# EAGLE library part AM2130 (library common)
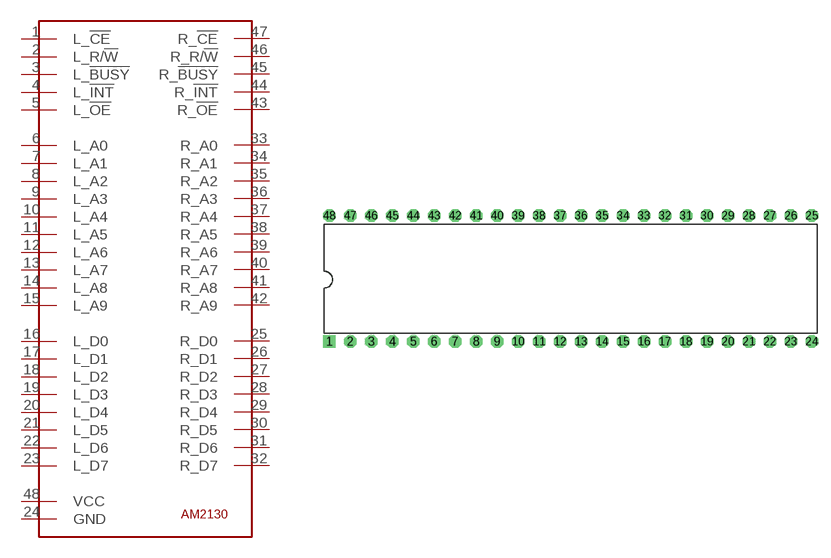
[diagram p46: symbol with the pads of DIL48; footprint DIL48]

Designator prefix -

## AM2130  [DIL48]
1  L_!CE
2  L_R/!W
3  L_!BUSY
4  L_!INT
5  L_!OE
6  L_A0
7  L_A1
8  L_A2
9  L_A3
10  L_A4
11  L_A5
12  L_A6
13  L_A7
14  L_A8
15  L_A9
16  L_D0
17  L_D1
18  L_D2
19  L_D3
20  L_D4
21  L_D5
22  L_D6
23  L_D7
24  GND
25  R_D0
26  R_D1
27  R_D2
28  R_D3
29  R_D4
30  R_D5
31  R_D6
32  R_D7
33  R_A0
34  R_A1
35  R_A2
36  R_A3
37  R_A4
38  R_A5
39  R_A6
40  R_A7
41  R_A8
42  R_A9
43  R_!OE
44  R_!INT
45  R_!BUSY
46  R_R/!W
47  R_!CE
48  VCC

## Footprint DIL48 (pad centres in mm)
Dual In Line Package
drill 1 square: 1 -29.21,-7.62
drill 1 octagon: 2 -26.67,-7.62; 3 -24.13,-7.62; 4 -21.59,-7.62; 5 -19.05,-7.62; 6 -16.51,-7.62; 7 -13.97,-7.62; 8 -11.43,-7.62; 9 -8.89,-7.62; 10 -6.35,-7.62; 11 -3.81,-7.62; 12 -1.27,-7.62; 13 1.27,-7.62; 14 3.81,-7.62; 15 6.35,-7.62; 16 8.89,-7.62; 17 11.43,-7.62; 18 13.97,-7.62; 19 16.51,-7.62; 20 19.05,-7.62; 21 21.59,-7.62; 22 24.13,-7.62; 23 26.67,-7.62; 24 29.21,-7.62; 25 29.21,7.62; 26 26.67,7.62; 27 24.13,7.62; 28 21.59,7.62; 29 19.05,7.62; 30 16.51,7.62; 31 13.97,7.62; 32 11.43,7.62; 33 8.89,7.62; 34 6.35,7.62; 35 3.81,7.62; 36 1.27,7.62; 37 -1.27,7.62; 38 -3.81,7.62; 39 -6.35,7.62; 40 -8.89,7.62; 41 -11.43,7.62; 42 -13.97,7.62; 43 -16.51,7.62; 44 -19.05,7.62; 45 -21.59,7.62; 46 -24.13,7.62; 47 -26.67,7.62; 48 -29.21,7.62